# Altium footprint library CD4051BE.PcbLib: 1 footprints
Each footprint in its own frame and in the unit in brackets; x right, y up, seen from the top. Pads: shape width x height; smd on the part's side, far side on the other; paste and mask are expansions set on the pad; w line width, h text height; cw(c..) or ccw(c..) is an arc to the next point about the centre after c.
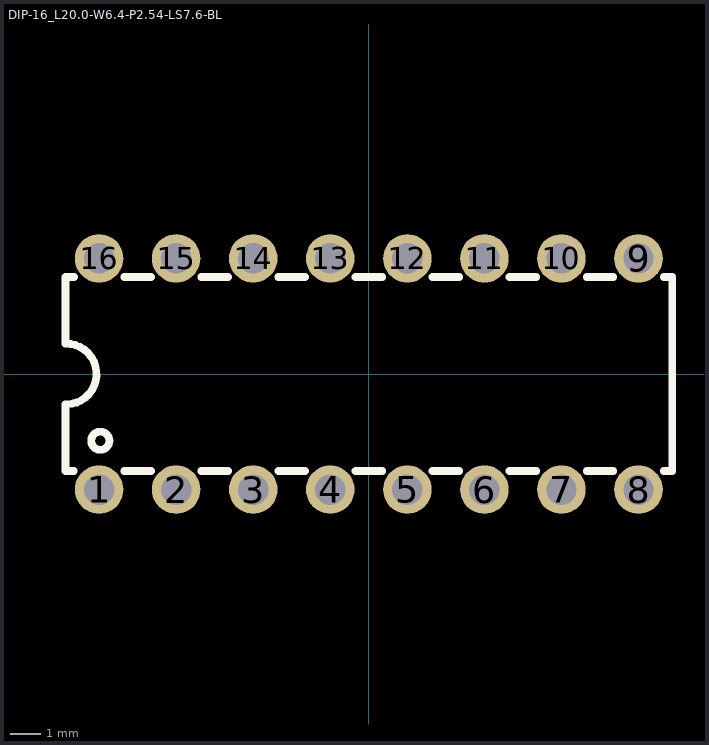
[diagram p0: the footprint, top view; thin cyan lines are the x and y axes]

## DIP-16_L20.0-W6.4-P2.54-LS7.6-BL [mm]
pads (16):
  round 1.6 hole 1: 1(-8.89,-3.81) 2(-6.35,-3.81) 3(-3.81,-3.81) 4(-1.27,-3.81) 5(1.27,-3.81) 6(3.81,-3.81) 7(6.35,-3.81) 8(8.89,-3.81) 9(8.89,3.81) 10(6.35,3.81) 11(3.81,3.81) 12(1.27,3.81) 13(-1.27,3.81) 14(-3.81,3.81) 15(-6.35,3.81) 16(-8.89,3.81)
Top Overlay:
  circle w0.254: c-8.85,-2.2 r0.3
  lines w0.254: -10,-1 -10,-3.2 -9.721,-3.2 ; -10,0.998 -10,3.198 -9.719,3.198 ; -10,1 cw(c-9.975,0) -9.95,-1 ; -8.061,3.198 -7.179,3.198 ; -8.059,-3.2 -7.181,-3.2 ; -5.521,3.198 -4.639,3.198 ; -5.519,-3.2 -4.641,-3.2 ; -2.981,3.198 -2.099,3.198 ; -2.979,-3.2 -2.101,-3.2 ; -0.441,3.198 0.441,3.198 ; -0.439,-3.2 0.439,-3.2 ; 2.099,3.198 2.981,3.198 ; 2.101,-3.2 2.979,-3.2 ; 4.639,3.198 5.521,3.198 ; 4.641,-3.2 5.519,-3.2 ; 7.179,3.198 8.061,3.198 ; 7.181,-3.2 8.059,-3.2 ; 9.719,3.198 10,3.198 ; 9.721,-3.2 10,-3.2 10,3.2